# Altium footprint library QFN.PcbLib: 15 footprints
Each footprint in its own frame and in the unit in brackets; x right, y up, seen from the top. Pads: shape width x height; smd on the part's side, far side on the other; paste and mask are expansions set on the pad; w line width, h text height; cw(c..) or ccw(c..) is an arc to the next point about the centre after c.
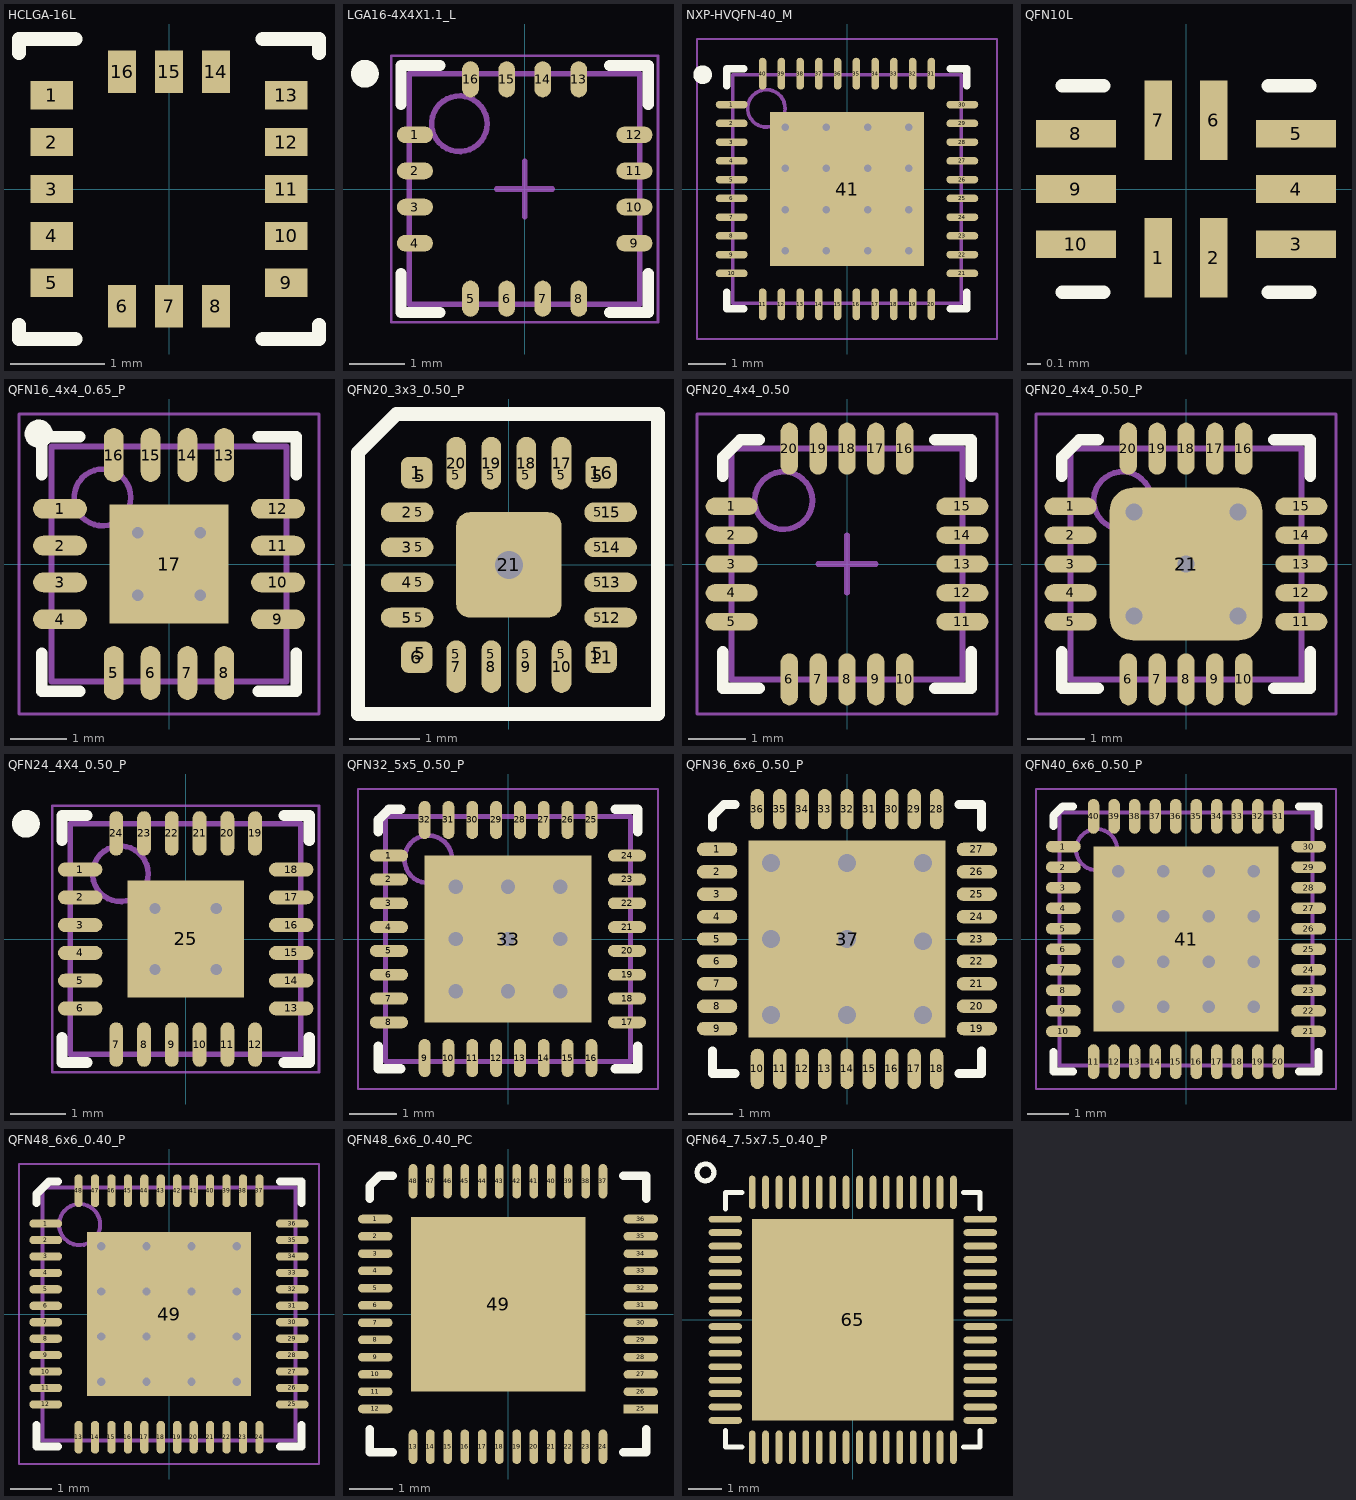
[diagram p0: the footprints below, top view; thin cyan lines are the x and y axes]

## HCLGA-16L [mm]
pads (16):
  rect 0.45x0.3 smd: 1(-1.25,1) 2(-1.25,0.5) 3(-1.25,0) 4(-1.25,-0.5) 5(-1.25,-1) 9(1.25,-1) 10(1.25,-0.5) 11(1.25,0) 12(1.25,0.5) 13(1.25,1)
  rect 0.3x0.45 smd: 6(-0.5,-1.25) 7(0,-1.25) 8(0.5,-1.25) 14(0.5,1.25) 15(0,1.25) 16(-0.5,1.25)
Top Overlay:
  lines w0.15: -1.6,-1.45 -1.6,-1.6 -1,-1.6 ; -1.6,1.45 -1.6,1.6 -1,1.6 ; 1,-1.6 1.6,-1.6 1.6,-1.45 ; 1,1.6 1.6,1.6 1.6,1.45
3D body "User Library-HCLGA-16L.step": height 1.01, standoff 0.01, extent -1.5,-1.5 1.5,1.5

## LGA16-4X4X1.1_L [mm] "PQFN, 16-Leads, Body 4x4mm, Pitch 0.65mm, IPC High Density"
height 1.1
pads (16):
  oval 0.65x0.3 smd: 1(-1.975,0.975) 2(-1.975,0.325) 3(-1.975,-0.325) 4(-1.975,-0.975) 9(1.975,-0.975) 10(1.975,-0.325) 11(1.975,0.325) 12(1.975,0.975)
  oval 0.3x0.65 smd: 5(-0.975,-1.975) 6(-0.325,-1.975) 7(0.325,-1.975) 8(0.975,-1.975) 13(0.975,1.975) 14(0.325,1.975) 15(-0.325,1.975) 16(-0.975,1.975)
Top Overlay:
  circle w0.25: c-2.875,2.075 r0.125
  lines w0.2: -2.225,-1.525 -2.225,-2.225 -1.525,-2.225 ; -2.225,1.525 -2.225,2.225 -1.525,2.225 ; 1.525,-2.225 2.225,-2.225 2.225,-1.525 ; 1.525,2.225 2.225,2.225 2.225,1.525
Mechanical 13:
  circle w0.1: c-1.175,1.175 r0.5
  lines w0.1: -2.075,-2.075 -2.075,2.075 2.075,2.075 2.075,-2.075 -2.075,-2.075
Mechanical 15:
  lines w0.05: -2.4,-2.4 -2.4,2.4 2.4,2.4 2.4,-2.4 -2.4,-2.4
  lines w0.1: -0.5,0 0.5,0 ; 0,-0.5 0,0.5
3D body: height 1.1, standoff 0, extent -2.075,-2.075 2.075,2.075

## NXP-HVQFN-40_M [mm] "QFN, 40-Leads, Body 6.1x6.1mm, Pitch 0.5mm, Thermal Pad 4.1x4.1mm, IPC Low Density"
height 1
pads (41):
  oval 0.85x0.2 smd: 1(-3.075,2.25) 2(-3.075,1.75) 3(-3.075,1.25) 4(-3.075,0.75) 5(-3.075,0.25) 6(-3.075,-0.25) 7(-3.075,-0.75) 8(-3.075,-1.25) 9(-3.075,-1.75) 10(-3.075,-2.25) 21(3.075,-2.25) 22(3.075,-1.75) 23(3.075,-1.25) 24(3.075,-0.75) 25(3.075,-0.25) 26(3.075,0.25) 27(3.075,0.75) 28(3.075,1.25) 29(3.075,1.75) 30(3.075,2.25)
  oval 0.2x0.85 smd: 11(-2.25,-3.075) 12(-1.75,-3.075) 13(-1.25,-3.075) 14(-0.75,-3.075) 15(-0.25,-3.075) 16(0.25,-3.075) 17(0.75,-3.075) 18(1.25,-3.075) 19(1.75,-3.075) 20(2.25,-3.075) 31(2.25,3.075) 32(1.75,3.075) 33(1.25,3.075) 34(0.75,3.075) 35(0.25,3.075) 36(-0.25,3.075) 37(-0.75,3.075) 38(-1.25,3.075) 39(-1.75,3.075) 40(-2.25,3.075)
  rect 4.1x4.1 smd: 41(0,0)
via -1.65,1.65 diameter 0.5 hole 0.2
via -0.55,1.65 diameter 0.5 hole 0.2
via 0.55,1.65 diameter 0.5 hole 0.2
via 1.65,1.65 diameter 0.5 hole 0.2
via -1.65,0.55 diameter 0.5 hole 0.2
via -0.55,0.55 diameter 0.5 hole 0.2
via 0.55,0.55 diameter 0.5 hole 0.2
via 1.65,0.55 diameter 0.5 hole 0.2
via -1.65,-0.55 diameter 0.5 hole 0.2
via -0.55,-0.55 diameter 0.5 hole 0.2
via 0.55,-0.55 diameter 0.5 hole 0.2
via 1.65,-0.55 diameter 0.5 hole 0.2
via -1.65,-1.65 diameter 0.5 hole 0.2
via -0.55,-1.65 diameter 0.5 hole 0.2
via 0.55,-1.65 diameter 0.5 hole 0.2
via 1.65,-1.65 diameter 0.5 hole 0.2
Top Overlay:
  circle w0.25: c-3.85,3.05 r0.125
  lines w0.2: -3.2,-2.75 -3.2,-3.2 -2.75,-3.2 ; -3.2,2.75 -3.2,3.2 -2.75,3.2 ; 2.75,-3.2 3.2,-3.2 3.2,-2.75 ; 2.75,3.2 3.2,3.2 3.2,2.75
Mechanical 13:
  circle w0.1: c-2.15,2.15 r0.5
  lines w0.1: -3.05,-3.05 -3.05,3.05 3.05,3.05 3.05,-3.05 -3.05,-3.05
Mechanical 15:
  lines w0.05: -4,-4 -4,4 4,4 4,-4 -4,-4
  lines w0.1: -0.5,0 0.5,0 ; 0,-0.5 0,0.5
3D body: height 1, standoff 0, extent -3.05,-3.05 3.05,3.05

## QFN10L [mm]
pads (10):
  rect 0.2x0.58 smd: 1(-0.2,-0.5) 2(0.2,-0.5) 6(0.2,0.5) 7(-0.2,0.5)
  rect 0.58x0.2 smd: 3(0.8,-0.4) 4(0.8,0) 5(0.8,0.4) 8(-0.8,0.4) 9(-0.8,0) 10(-0.8,-0.4)
Top Overlay:
  lines w0.1: -0.9,-0.75 -0.6,-0.75 ; -0.9,0.75 -0.6,0.75 ; 0.6,-0.75 0.9,-0.75 ; 0.6,0.75 0.9,0.75
3D body: height 0.6, standoff 0, extent -0.9,-0.7 0.9,0.7

## QFN16_4x4_0.65_P [mm]
height 1
pads (17):
  oval 0.95x0.35 smd: 1(-1.925,0.975) 2(-1.925,0.325) 3(-1.925,-0.325) 4(-1.925,-0.975) 9(1.925,-0.975) 10(1.925,-0.325) 11(1.925,0.325) 12(1.925,0.975)
  oval 0.35x0.95 smd: 5(-0.975,-1.925) 6(-0.325,-1.925) 7(0.325,-1.925) 8(0.975,-1.925) 13(0.975,1.925) 14(0.325,1.925) 15(-0.325,1.925) 16(-0.975,1.925)
  rect 2.1x2.1 smd: 17(0,0)
via -0.55,0.55 diameter 0.5 hole 0.2
via 0.55,0.55 diameter 0.5 hole 0.2
via -0.55,-0.55 diameter 0.5 hole 0.2
via 0.55,-0.55 diameter 0.5 hole 0.2
Top Overlay:
  circle w0.25: c-2.3,2.3 r0.125
  lines w0.2: -2.25,-1.575 -2.25,-2.25 -1.575,-2.25 ; -2.25,1.575 -2.25,2.25 -1.575,2.25 ; 1.575,-2.25 2.25,-2.25 2.25,-1.575 ; 1.575,2.25 2.25,2.25 2.25,1.575
Top Solder:
  region: -1.25,2.2 -1.25,1.25 -2.2,1.25 -2.2,-1.25 -1.25,-1.25 -1.25,-2.2 1.25,-2.2 1.25,-1.25 2.2,-1.25 2.2,1.25 1.25,1.25 1.25,2.2
Mechanical 13:
  circle w0.1: c-1.175,1.175 r0.5
  lines w0.1: -2.075,-2.075 -2.075,2.075 2.075,2.075 2.075,-2.075 -2.075,-2.075
Mechanical 15:
  lines w0.05: -2.65,-2.65 -2.65,2.65 2.65,2.65 2.65,-2.65 -2.65,-2.65
  lines w0.1: -0.5,0 0.5,0 ; 0,-0.5 0,0.5
3D body "User Library-QFN-16-1.step": height 0.86, standoff 0.01, extent -2.085,-2.085 2.085,2.085

## QFN20_3x3_0.50_P [mm]
pads (41):
  rrect50% 0.45x0.45 smd mask+0.1: 1(-1.315,1.315) 6(-1.315,-1.315) 11(1.315,-1.315) 16(1.315,1.315)
  oval 0.75x0.28 smd mask+0.1: 2(-1.45,0.75) 3(-1.45,0.25) 4(-1.45,-0.25) 5(-1.45,-0.75) 12(1.45,-0.75) 13(1.45,-0.25) 14(1.45,0.25) 15(1.45,0.75)
  rrect50% 0.3x0.25 on Mech1 mask+0: 5(-1.275,-0.25) 5(-1.275,0.25) 5(-1.275,-0.75) 5(-1.275,0.75) 5(1.275,-0.75) 5(1.275,-0.25) 5(1.275,0.25) 5(1.275,0.75)
  rrect50% 0.32x0.32 on Mech1 mask+0: 5(-1.265,-1.265) 5(-1.265,1.265) 5(1.265,-1.265) 5(1.265,1.265)
  rrect50% 0.25x0.3 on Mech1 mask+0: 5(-0.75,-1.275) 5(-0.75,1.275) 5(-0.25,-1.275) 5(-0.25,1.275) 5(0.25,-1.275) 5(0.25,1.275) 5(0.75,-1.275) 5(0.75,1.275)
  oval 0.28x0.75 smd mask+0.1: 7(-0.75,-1.45) 8(-0.25,-1.45) 9(0.25,-1.45) 10(0.75,-1.45) 17(0.75,1.45) 18(0.25,1.45) 19(-0.25,1.45) 20(-0.75,1.45)
  rrect25% 1.5x1.5 smd mask+0.1: 21(0,0)
via 0,0 diameter 0.6 hole 0.4
Top Overlay:
  lines w0.2: -2.15,-2.125 -2.15,1.6 -1.6,2.15 2.125,2.15 2.125,-2.125 -2.15,-2.125
Top Solder:
  region: 1.65,-0.99 1.8,-0.84 1.8,0.84 1.65,0.99 1.2,0.99 1.2,-0.99
  region: -1.65,0.99 -1.8,0.84 -1.8,-0.84 -1.65,-0.99 -1.2,-0.99 -1.2,0.99
  region: -0.99,-1.7 -0.84,-1.85 0.84,-1.85 0.99,-1.7 0.99,-1.25 -0.99,-1.25
  region: -1.29,1.64 1.33,1.64 1.64,1.33 1.64,-1.26 1.26,-1.64 -1.23,-1.64 -1.64,-1.23 -1.64,1.29
  region: 0.99,1.65 0.84,1.8 -0.84,1.8 -0.99,1.65 -0.99,1.2 0.99,1.2
3D body "SW3dPS-QFN-20.STEP": height 0.63, standoff -0.08, extent -1.5,-1.5 1.5,1.5

## QFN20_4x4_0.50 [mm] "QFN, 20-Leads, Body 4,00x4,00mm, Pitch 0,50mm, Thermal Pad 2,60x2,60mm, IPC Medium Density"
height 0.8
pads (20):
  oval 0.9x0.3 smd: 1(-2,1) 2(-2,0.5) 3(-2,0) 4(-2,-0.5) 5(-2,-1) 11(2,-1) 12(2,-0.5) 13(2,0) 14(2,0.5) 15(2,1)
  oval 0.3x0.9 smd: 6(-1,-2) 7(-0.5,-2) 8(0,-2) 9(0.5,-2) 10(1,-2) 16(1,2) 17(0.5,2) 18(0,2) 19(-0.5,2) 20(-1,2)
Top Overlay:
  lines w0.2: -2.15,-1.525 -2.15,-2.15 -1.525,-2.15 ; -2.15,1.525 -2.15,1.85 -1.85,2.15 -1.525,2.15 ; 1.525,-2.15 2.15,-2.15 2.15,-1.525 ; 1.525,2.15 2.15,2.15 2.15,1.525
Top Solder:
  region: 1,-1.6 -1,-1.6 -1,-2.4 1,-2.4
  region: 2.4,-1 2.4,1 1.6,1 1.6,-1
  region: -1,1.6 1,1.6 1,2.4 -1,2.4
  region: -2.4,1 -2.4,-1 -1.6,-1 -1.6,1
Mechanical 13:
  circle w0.1: c-1.1,1.1 r0.5
  lines w0.1: -2,-2 -2,2 2,2 2,-2 -2,-2
Mechanical 15:
  lines w0.05: -2.6,-2.6 -2.6,2.6 2.6,2.6 2.6,-2.6 -2.6,-2.6
  lines w0.1: -0.5,0 0.5,0 ; 0,-0.5 0,0.5
3D body "User Library-qfn20-4x4.step": height 0.93, standoff 0.01, extent -2,-2 2,2

## QFN20_4x4_0.50_P [mm]
pads (21):
  oval 0.9x0.3 smd mask+0.1: 1(-2,1) 2(-2,0.5) 3(-2,0) 4(-2,-0.5) 5(-2,-1) 11(2,-1) 12(2,-0.5) 13(2,0) 14(2,0.5) 15(2,1)
  oval 0.3x0.9 smd mask+0.1: 6(-1,-2) 7(-0.5,-2) 8(0,-2) 9(0.5,-2) 10(1,-2) 16(1,2) 17(0.5,2) 18(0,2) 19(-0.5,2) 20(-1,2)
  rrect30% 2.65x2.65 smd mask+0.1: 21(0,0)
via 0,0 diameter 0.7 hole 0.3
via -0.9,0.9 diameter 0.7 hole 0.3
via -0.9,-0.9 diameter 0.7 hole 0.3
via 0.9,-0.9 diameter 0.7 hole 0.3
via 0.9,0.9 diameter 0.7 hole 0.3
Top Overlay:
  lines w0.2: -2.15,-1.525 -2.15,-2.15 -1.525,-2.15 ; -2.15,1.525 -2.15,1.85 -1.85,2.15 -1.525,2.15 ; 1.525,-2.15 2.15,-2.15 2.15,-1.525 ; 1.525,2.15 2.15,2.15 2.15,1.525
Top Solder:
  region: -2.4,-1.15 -2.35,-1.2 -1.2,-1.2 -1.2,1.2 -2.35,1.2 -2.4,1.15
  region: 1.15,-2.4 1.2,-2.35 1.2,-1.2 -1.2,-1.2 -1.2,-2.35 -1.15,-2.4
  region: 2.4,1.15 2.35,1.2 1.2,1.2 1.2,-1.2 2.35,-1.2 2.4,-1.15
  region: -1.15,2.4 -1.2,2.35 -1.2,1.2 1.2,1.2 1.2,2.35 1.15,2.4
Mechanical 13:
  circle w0.1: c-1.1,1.1 r0.5
  lines w0.1: -2,-2 -2,2 2,2 2,-2 -2,-2
Mechanical 15:
  lines w0.05: -2.6,-2.6 -2.6,2.6 2.6,2.6 2.6,-2.6 -2.6,-2.6
  lines w0.1: -0.5,0 0.5,0 ; 0,-0.5 0,0.5
3D body "User Library-qfn20-4x4.step": height 0.93, standoff 0.01, extent -2,-2 2,2

## QFN24_4X4_0.50_P [mm] "QFN, 24-Leads, Body 4x4mm, Pitch 0.5mm, Thermal Pad 2.1x2.1mm, IPC High Density"
height 1
pads (25):
  oval 0.8x0.25 smd: 1(-1.9,1.25) 2(-1.9,0.75) 3(-1.9,0.25) 4(-1.9,-0.25) 5(-1.9,-0.75) 6(-1.9,-1.25) 13(1.9,-1.25) 14(1.9,-0.75) 15(1.9,-0.25) 16(1.9,0.25) 17(1.9,0.75) 18(1.9,1.25)
  oval 0.25x0.8 smd: 7(-1.25,-1.9) 8(-0.75,-1.9) 9(-0.25,-1.9) 10(0.25,-1.9) 11(0.75,-1.9) 12(1.25,-1.9) 19(1.25,1.9) 20(0.75,1.9) 21(0.25,1.9) 22(-0.25,1.9) 23(-0.75,1.9) 24(-1.25,1.9)
  rect 2.1x2.1 smd: 25(0,0)
via -0.55,0.55 diameter 0.5 hole 0.2
via 0.55,0.55 diameter 0.5 hole 0.2
via -0.55,-0.55 diameter 0.5 hole 0.2
via 0.55,-0.55 diameter 0.5 hole 0.2
Top Overlay:
  circle w0.25: c-2.875,2.075 r0.125
  lines w0.2: -2.225,-1.775 -2.225,-2.225 -1.775,-2.225 ; -2.225,1.775 -2.225,2.225 -1.775,2.225 ; 1.775,-2.225 2.225,-2.225 2.225,-1.775 ; 1.775,2.225 2.225,2.225 2.225,1.775
Mechanical 13:
  circle w0.1: c-1.175,1.175 r0.5
  lines w0.1: -2.075,-2.075 -2.075,2.075 2.075,2.075 2.075,-2.075 -2.075,-2.075
Mechanical 15:
  lines w0.05: -2.4,-2.4 -2.4,2.4 2.4,2.4 2.4,-2.4 -2.4,-2.4
  lines w0.1: -0.5,0 0.5,0 ; 0,-0.5 0,0.5
3D body: height 1, standoff 0, extent -2.075,-2.075 2.075,2.075

## QFN32_5x5_0.50_P [mm] "QFN, 32-Leads, Body 5,00x5,00mm, Pitch 0,50mm, Thermal Pad 3,50x3,50mm, IPC Medium Density"
height 1
pads (33):
  oval 0.8x0.25 smd: 1(-2.5,1.75) 2(-2.5,1.25) 3(-2.5,0.75) 4(-2.5,0.25) 5(-2.5,-0.25) 6(-2.5,-0.75) 7(-2.5,-1.25) 8(-2.5,-1.75) 17(2.5,-1.75) 18(2.5,-1.25) 19(2.5,-0.75) 20(2.5,-0.25) 21(2.5,0.25) 22(2.5,0.75) 23(2.5,1.25) 24(2.5,1.75)
  oval 0.25x0.8 smd: 9(-1.75,-2.5) 10(-1.25,-2.5) 11(-0.75,-2.5) 12(-0.25,-2.5) 13(0.25,-2.5) 14(0.75,-2.5) 15(1.25,-2.5) 16(1.75,-2.5) 25(1.75,2.5) 26(1.25,2.5) 27(0.75,2.5) 28(0.25,2.5) 29(-0.25,2.5) 30(-0.75,2.5) 31(-1.25,2.5) 32(-1.75,2.5)
  rect 3.5x3.5 smd: 33(0,0)
via -1.1,1.1 diameter 0.7 hole 0.3
via 0,1.1 diameter 0.7 hole 0.3
via 1.1,1.1 diameter 0.7 hole 0.3
via -1.1,0 diameter 0.7 hole 0.3
via 0,0 diameter 0.7 hole 0.3
via 1.1,0 diameter 0.7 hole 0.3
via -1.1,-1.1 diameter 0.7 hole 0.3
via 0,-1.1 diameter 0.7 hole 0.3
via 1.1,-1.1 diameter 0.7 hole 0.3
Top Overlay:
  lines w0.2: -2.725,-2.25 -2.725,-2.725 -2.25,-2.725 ; -2.725,2.25 -2.725,2.5 -2.5,2.725 -2.25,2.725 ; 2.25,-2.725 2.725,-2.725 2.725,-2.25 ; 2.25,2.725 2.725,2.725 2.725,2.25
Top Solder:
  region: -1.95,2.8 -1.95,1.95 -2.8,1.95 -2.8,-1.95 -1.95,-1.95 -1.95,-2.8 1.95,-2.8 1.95,-1.95 2.8,-1.95 2.8,1.95 1.95,1.95 1.95,2.8
Mechanical 13:
  circle w0.1: c-1.675,1.675 r0.5
  lines w0.1: -2.575,-2.575 -2.575,2.575 2.575,2.575 2.575,-2.575 -2.575,-2.575
Mechanical 15:
  lines w0.05: -3.15,-3.15 -3.15,3.15 3.15,3.15 3.15,-3.15 -3.15,-3.15
  lines w0.1: -0.5,0 0.5,0 ; 0,-0.5 0,0.5
3D body "User Library-qfn32-5x5.step": height 0.8, standoff 0, extent -2.51,-2.51 2.51,2.51

## QFN36_6x6_0.50_P [mm]
pads (37):
  oval 0.9x0.3 smd: 1(-2.9,2) 2(-2.9,1.5) 3(-2.9,1) 4(-2.9,0.5) 5(-2.9,0) 6(-2.9,-0.5) 7(-2.9,-1) 8(-2.9,-1.5) 9(-2.9,-2) 19(2.9,-2) 20(2.9,-1.5) 21(2.9,-1) 22(2.9,-0.5) 23(2.9,0) 24(2.9,0.5) 25(2.9,1) 26(2.9,1.5) 27(2.9,2)
  oval 0.3x0.9 smd: 10(-2,-2.9) 11(-1.5,-2.9) 12(-1,-2.9) 13(-0.5,-2.9) 14(0,-2.9) 15(0.5,-2.9) 16(1,-2.9) 17(1.5,-2.9) 18(2,-2.9) 28(2,2.9) 29(1.5,2.9) 30(1,2.9) 31(0.5,2.9) 32(0,2.9) 33(-0.5,2.9) 34(-1,2.9) 35(-1.5,2.9) 36(-2,2.9)
  rect 4.4x4.4 smd: 37(0,0)
via 0,-1.7 diameter 0.8 hole 0.4
via 0,1.7 diameter 0.8 hole 0.4
via 1.7,-0.05 diameter 0.8 hole 0.4
via -1.7,0 diameter 0.8 hole 0.4
via -1.7,1.7 diameter 0.8 hole 0.4
via -1.7,-1.7 diameter 0.8 hole 0.4
via 1.7,-1.7 diameter 0.8 hole 0.4
via 1.7,1.7 diameter 0.8 hole 0.4
via 0,0 diameter 0.8 hole 0.4
Top Overlay:
  lines w0.2: -3,-2.5 -3,-3 -2.5,-3 ; -3,2.5 -3,2.75 -2.75,3 -2.5,3 ; 2.5,-3 3,-3 3,-2.5 ; 2.5,3 3,3 3,2.5
Top Solder:
  region: -3.2,2.25 -3.2,-2.25 -2.25,-2.25 -2.25,-3.2 2.25,-3.2 2.25,-2.25 3.15,-2.25 3.15,2.25 2.25,2.25 2.25,3.2 -2.25,3.2 -2.25,2.25
3D body "User Library-QFN36 (6x6).step": height 0.9, standoff 0.01, extent -3.102,-3.103 3.103,3.102

## QFN40_6x6_0.50_P [mm] "QFN, 40-Leads, Body 6,00x6,00mm, Pitch 0,50mm, Thermal Pad 4,50x4,50mm, IPC Medium Density"
height 1
pads (41):
  oval 0.85x0.28 smd: 1(-2.985,2.25) 2(-2.985,1.75) 3(-2.985,1.25) 4(-2.985,0.75) 5(-2.985,0.25) 6(-2.985,-0.25) 7(-2.985,-0.75) 8(-2.985,-1.25) 9(-2.985,-1.75) 10(-2.985,-2.25) 21(2.985,-2.25) 22(2.985,-1.75) 23(2.985,-1.25) 24(2.985,-0.75) 25(2.985,-0.25) 26(2.985,0.25) 27(2.985,0.75) 28(2.985,1.25) 29(2.985,1.75) 30(2.985,2.25)
  oval 0.28x0.85 smd: 11(-2.25,-2.985) 12(-1.75,-2.985) 13(-1.25,-2.985) 14(-0.75,-2.985) 15(-0.25,-2.985) 16(0.25,-2.985) 17(0.75,-2.985) 18(1.25,-2.985) 19(1.75,-2.985) 20(2.25,-2.985) 31(2.25,2.985) 32(1.75,2.985) 33(1.25,2.985) 34(0.75,2.985) 35(0.25,2.985) 36(-0.25,2.985) 37(-0.75,2.985) 38(-1.25,2.985) 39(-1.75,2.985) 40(-2.25,2.985)
  rect 4.5x4.5 smd: 41(0,0)
via 1.65,-1.65 diameter 0.7 hole 0.3
via 0.55,-1.65 diameter 0.7 hole 0.3
via -0.55,-1.65 diameter 0.7 hole 0.3
via -1.65,-1.65 diameter 0.7 hole 0.3
via 1.65,-0.55 diameter 0.7 hole 0.3
via 0.55,-0.55 diameter 0.7 hole 0.3
via -0.55,-0.55 diameter 0.7 hole 0.3
via -1.65,-0.55 diameter 0.7 hole 0.3
via 1.65,0.55 diameter 0.7 hole 0.3
via 0.55,0.55 diameter 0.7 hole 0.3
via -0.55,0.55 diameter 0.7 hole 0.3
via -1.65,0.55 diameter 0.7 hole 0.3
via 1.65,1.65 diameter 0.7 hole 0.3
via 0.55,1.65 diameter 0.7 hole 0.3
via -0.55,1.65 diameter 0.7 hole 0.3
via -1.65,1.65 diameter 0.7 hole 0.3
Top Overlay:
  lines w0.2: -3.225,-2.75 -3.225,-3.225 -2.75,-3.225 ; -3.225,2.75 -3.225,3 -3,3.225 -2.75,3.225 ; 2.75,-3.225 3.225,-3.225 3.225,-2.75 ; 2.75,3.225 3.225,3.225 3.225,2.75
Top Solder:
  rectangle: -3.35,-2.45 3.35,2.45
  region: -2.45,3.35 -2.45,-3.35 2.45,-3.35 2.45,3.35
Mechanical 13:
  circle w0.1: c-2.175,2.175 r0.5
  lines w0.1: -3.075,-3.075 3.075,-3.075 3.075,3.075 -3.075,3.075 -3.075,-3.075
Mechanical 15:
  lines w0.05: -3.65,-3.65 3.65,-3.65 3.65,3.65 -3.65,3.65 -3.65,-3.65
  lines w0.1: -0.5,0 0.5,0 ; 0,-0.5 0,0.5
3D body "User Library-QFN-40.STEP": height 1.06, standoff 0.01, extent -3.075,-3.075 3.075,3.075

## QFN48_6x6_0.40_P [mm]
height 1
pads (49):
  oval 0.8x0.2 smd: 1(-3,2.2) 2(-3,1.8) 3(-3,1.4) 4(-3,1) 5(-3,0.6) 6(-3,0.2) 7(-3,-0.2) 8(-3,-0.6) 9(-3,-1) 10(-3,-1.4) 11(-3,-1.8) 12(-3,-2.2) 25(3,-2.2) 26(3,-1.8) 27(3,-1.4) 28(3,-1) 29(3,-0.6) 30(3,-0.2) 31(3,0.2) 32(3,0.6) 33(3,1) 34(3,1.4) 35(3,1.8) 36(3,2.2)
  oval 0.2x0.8 smd: 13(-2.2,-3) 14(-1.8,-3) 15(-1.4,-3) 16(-1,-3) 17(-0.6,-3) 18(-0.2,-3) 19(0.2,-3) 20(0.6,-3) 21(1,-3) 22(1.4,-3) 23(1.8,-3) 24(2.2,-3) 37(2.2,3) 38(1.8,3) 39(1.4,3) 40(1,3) 41(0.6,3) 42(0.2,3) 43(-0.2,3) 44(-0.6,3) 45(-1,3) 46(-1.4,3) 47(-1.8,3) 48(-2.2,3)
  rect 4x4 smd: 49(0,0)
via -1.65,1.65 diameter 0.5 hole 0.2
via -0.55,1.65 diameter 0.5 hole 0.2
via 0.55,1.65 diameter 0.5 hole 0.2
via 1.65,1.65 diameter 0.5 hole 0.2
via -1.65,0.55 diameter 0.5 hole 0.2
via -0.55,0.55 diameter 0.5 hole 0.2
via 0.55,0.55 diameter 0.5 hole 0.2
via 1.65,0.55 diameter 0.5 hole 0.2
via -1.65,-0.55 diameter 0.5 hole 0.2
via -0.55,-0.55 diameter 0.5 hole 0.2
via 0.55,-0.55 diameter 0.5 hole 0.2
via 1.65,-0.55 diameter 0.5 hole 0.2
via -1.65,-1.65 diameter 0.5 hole 0.2
via -0.55,-1.65 diameter 0.5 hole 0.2
via 0.55,-1.65 diameter 0.5 hole 0.2
via 1.65,-1.65 diameter 0.5 hole 0.2
Top Overlay:
  lines w0.2: -3.225,-2.7 -3.225,-3.225 -2.7,-3.225 ; -3.225,2.7 -3.225,2.925 -2.925,3.225 -2.7,3.225 ; 2.7,-3.225 3.225,-3.225 3.225,-2.7 ; 2.7,3.225 3.225,3.225 3.225,2.7
Mechanical 13:
  circle w0.1: c-2.175,2.175 r0.5
  lines w0.1: -3.075,-3.075 -3.075,3.075 3.075,3.075 3.075,-3.075 -3.075,-3.075
Mechanical 15:
  lines w0.05: -3.65,-3.65 -3.65,3.65 3.65,3.65 3.65,-3.65 -3.65,-3.65
  lines w0.1: -0.5,0 0.5,0 ; 0,-0.5 0,0.5
3D body "User Library-QFN48.step": height 0.88, standoff 0.01, extent -3.02,-3.02 3.02,3.02

## QFN48_6x6_0.40_PC [mil] "U_48_RSL"
pads (49):
  oval 31.5x7.87 smd mask+3.94: 1(-121.06,86.61) 2(-121.06,70.87) 3(-121.06,55.12) 4(-121.06,39.37) 5(-121.06,23.62) 6(-121.06,7.87) 7(-121.06,-7.87) 8(-121.06,-23.62) 9(-121.06,-39.37) 10(-121.06,-55.12) 11(-121.06,-70.87) 12(-121.06,-86.61) 26(121.06,-70.87) 27(121.06,-55.12) 28(121.06,-39.37) 29(121.06,-23.62) 30(121.06,-7.87) 31(121.06,7.87) 32(121.06,23.62) 33(121.06,39.37) 34(121.06,55.12) 35(121.06,70.87) 36(121.06,86.61)
  oval 7.87x31.5 smd mask+3.94: 13(-86.61,-121.06) 14(-70.87,-121.06) 15(-55.12,-121.06) 16(-39.37,-121.06) 17(-23.62,-121.06) 18(-7.87,-121.06) 19(7.87,-121.06) 20(23.62,-121.06) 21(39.37,-121.06) 22(55.12,-121.06) 23(70.87,-121.06) 24(86.61,-121.06) 37(86.61,121.06) 38(70.87,121.06) 39(55.12,121.06) 40(39.37,121.06) 41(23.62,121.06) 42(7.87,121.06) 43(-7.87,121.06) 44(-23.62,121.06) 45(-39.37,121.06) 46(-55.12,121.06) 47(-70.87,121.06) 48(-86.61,121.06)
  rect 31.5x7.87 smd mask+3.94: 25(121.06,-86.61)
  rect 159.45x159.45 smd mask+3.94: 49(-8.86,8.86)
Top Overlay:
  lines w7.87: -125.98,-105.31 -125.98,-125.98 -105.31,-125.98 ; -125.98,105.31 -125.98,117.13 -117.13,125.98 -105.31,125.98 ; 105.31,-125.98 125.98,-125.98 125.98,-105.31 ; 105.31,125.98 125.98,125.98 125.98,105.31
Top Paste:
  pour cut-out: 25.64,-13.64 25.64,31.36 70.64,31.36 70.64,-13.64
  pour cut-out: -31.36,-13.64 -31.36,31.36 13.64,31.36 13.64,-13.64
  pour cut-out: -88.36,-13.64 -88.36,31.36 -43.36,31.36 -43.36,-13.64
  pour cut-out: -88.36,43.36 -88.36,88.36 -43.36,88.36 -43.36,43.36
  pour cut-out: -31.36,43.36 -31.36,88.36 13.64,88.36 13.64,43.36
  pour cut-out: 25.64,43.36 25.64,88.36 70.64,88.36 70.64,43.36
  pour cut-out: -88.36,-70.64 -88.36,-25.64 -43.36,-25.64 -43.36,-70.64
  pour cut-out: -31.36,-70.64 -31.36,-25.64 13.64,-25.64 13.64,-70.64
  pour cut-out: 25.64,-70.64 25.64,-25.64 70.64,-25.64 70.64,-70.64
3D body "User Library-QFN48.step": height 34.66, standoff 0.48, extent -118.88,-118.89 118.91,118.9

## QFN64_7.5x7.5_0.40_P [mm]
pads (65):
  oval 1x0.2 smd: 1(-3.8,3) 2(-3.8,2.6) 3(-3.8,2.2) 4(-3.8,1.8) 5(-3.8,1.4) 6(-3.8,1) 7(-3.8,0.6) 8(-3.8,0.2) 9(-3.8,-0.2) 10(-3.8,-0.6) 11(-3.8,-1) 12(-3.8,-1.4) 13(-3.8,-1.8) 14(-3.8,-2.2) 15(-3.8,-2.6) 16(-3.8,-3) 33(3.8,-3) 34(3.8,-2.6) 35(3.8,-2.2) 36(3.8,-1.8) 37(3.8,-1.4) 38(3.8,-1) 39(3.8,-0.6) 40(3.8,-0.2) 41(3.8,0.2) 42(3.8,0.6) 43(3.8,1) 44(3.8,1.4) 45(3.8,1.8) 46(3.8,2.2) 47(3.8,2.6) 48(3.8,3)
  oval 0.2x1 smd: 17(-3,-3.8) 18(-2.6,-3.8) 19(-2.2,-3.8) 20(-1.8,-3.8) 21(-1.4,-3.8) 22(-1,-3.8) 23(-0.6,-3.8) 24(-0.2,-3.8) 25(0.2,-3.8) 26(0.6,-3.8) 27(1,-3.8) 28(1.4,-3.8) 29(1.8,-3.8) 30(2.2,-3.8) 31(2.6,-3.8) 32(3,-3.8) 49(3,3.8) 50(2.6,3.8) 51(2.2,3.8) 52(1.8,3.8) 53(1.4,3.8) 54(1,3.8) 55(0.6,3.8) 56(0.2,3.8) 57(-0.2,3.8) 58(-0.6,3.8) 59(-1,3.8) 60(-1.4,3.8) 61(-1.8,3.8) 62(-2.2,3.8) 63(-2.6,3.8) 64(-3,3.8)
  rect 6x6 smd: 65(0,0)
Top Overlay:
  circle w0.15: c-4.394,4.394 r0.251
  lines w0.15: -3.8,-3.3 -3.8,-3.8 -3.3,-3.8 ; -3.8,3.3 -3.8,3.8 -3.3,3.8 ; 3.3,-3.8 3.8,-3.8 3.8,-3.3 ; 3.3,3.8 3.8,3.8 3.8,3.3
3D body: height 0.8, standoff 0, extent -3.8,-3.8 3.8,3.8